# Altium schematic symbol library RESISTOR.SchLib: 36 symbols
Pins are listed as number, name and electrical type; pins without a type are passive.

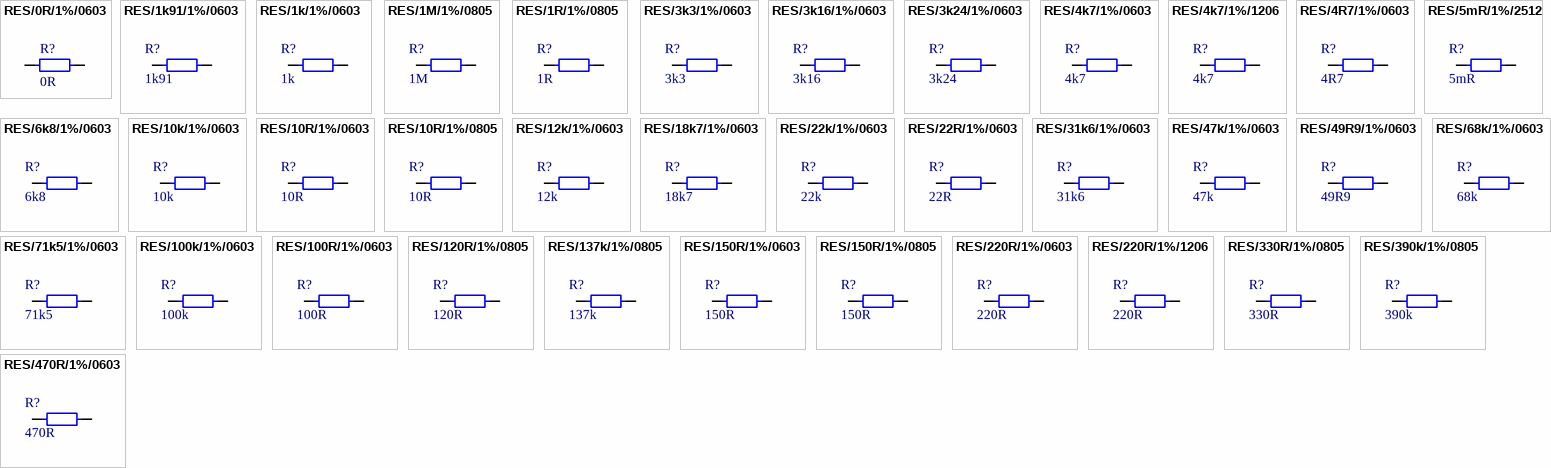
[diagram p0: symbols RES/0R/1%/0603 to RES/470R/1%/0603]

## RES/0R/1%/0603
designator R?, comment 0R
Thick Film Resistors - SMD 1/10Watt 0ohms Commercial Use; Manufacturer: Vishay Dale; Part Number: CRCW06030000Z0EAC; Distributor 1: Mouser; Distributor 1 ID: 71-CRCW06030000Z0EAC; Second Source: *; Value: 0R
footprint RES_0603N (Chip Resistor, 2-Leads, Body 1.60x0.80mm, IPC Medium Density)
pins: 1, 2

## RES/1k91/1%/0603
designator R?, comment value 1k91  (hidden comment: 1k91/0603)
Thick Film Resistors 1/10W 1.91Kohms 1% Commercial Use; Manufacturer: Vishay; Part Number: CRCW06033K16FKEAC; Distributor: Mouser; Distributor ID: 71-CRCW06033K16FKEAC
footprint RES_0603N (Chip Resistor, 2-Leads, Body 1.60x0.80mm, IPC Medium Density)
pins: 1, 2

## RES/1k/1%/0603
designator R?, comment value 1k  (hidden comment: 1k/0603)
Thick Film Resistors - SMD 1/10Watt 10Kohms 1% Commercial Use; Manufacturer: Vishay; Part Number: CRCW06031K00FKEAC; Distributor: Mouser; Distributor ID: 71-CRCW06031K00FKEAC
footprint RES_0603N (Chip Resistor, 2-Leads, Body 1.60x0.80mm, IPC Medium Density)
pins: 1, 2

## RES/1M/1%/0805
designator R?, comment value 1M  (hidden comment: 1M/0805)
Thick Film Resistors - SMD .125watt 1Mohms 1% 0805 100ppm; Manufacturer: Vishay; Part Number: CRCW080510R0FKEAC; Distributor: Mouser; Distributor ID: 71-CRCW080510R0FKEAC
footprint RES_0805N (Chip Resistor, 2-Leads, Body 2.1x1.35mm, IPC Medium Density)
pins: 1, 2

## RES/1R/1%/0805
designator R?, comment value 1R  (hidden comment: 1R/0805)
Thick Film Resistors - SMD .125watt 1ohms 1% 0805 100ppm; Manufacturer: Vishay; Part Number: CRCW080510R0FKEAC; Distributor: Mouser; Distributor ID: 71-CRCW080510R0FKEAC
footprint RES_0805N (Chip Resistor, 2-Leads, Body 2.1x1.35mm, IPC Medium Density)
pins: 1, 2

## RES/3k3/1%/0603
designator R?, comment value 3k3  (hidden comment: 3k3/0603)
Thick Film Resistors - SMD 1/10Watt 3.3Kohms 1% Commercial Use; Manufacturer: Vishay; Part Number: CRCW06033K30FKEAC; Distributor: Mouser; Distributor ID: 71-CRCW06033K30FKEAC
footprint RES_0603N (Chip Resistor, 2-Leads, Body 1.60x0.80mm, IPC Medium Density)
pins: 1, 2

## RES/3k16/1%/0603
designator R?, comment value 3k16  (hidden comment: 3k16/0603)
Thick Film Resistors 1/10W 3.16Kohms 1% Commercial Use; Manufacturer: Vishay; Part Number: CRCW06033K16FKEAC; Distributor: Mouser; Distributor ID: 71-CRCW06033K16FKEAC
footprint RES_0603N (Chip Resistor, 2-Leads, Body 1.60x0.80mm, IPC Medium Density)
pins: 1, 2

## RES/3k24/1%/0603
designator R?, comment value 3k24  (hidden comment: 3k24/0603)
Thick Film Resistors 1/10W 3.24Kohms 1% Commercial Use; Manufacturer: Vishay; Part Number: CRCW06033K16FKEAC; Distributor: Mouser; Distributor ID: 71-CRCW06033K16FKEAC
footprint RES_0603N (Chip Resistor, 2-Leads, Body 1.60x0.80mm, IPC Medium Density)
pins: 1, 2

## RES/4k7/1%/0603
designator R?, comment value 4k7  (hidden comment: 4k7/0603)
Thick Film Resistors - SMD 1/10Watt 4.7Kohms 1% Commercial Use; Manufacturer: Vishay; Part Number: CRCW06034K70FKEAC; Distributor: Mouser; Distributor ID: 71-CRCW06034K70FKEAC
footprint RES_0603N (Chip Resistor, 2-Leads, Body 1.60x0.80mm, IPC Medium Density)
pins: 1, 2

## RES/4k7/1%/1206
designator R?, comment value 4k7  (hidden comment: 4k7/1206)
Thick Film Resistors - SMD 0.5watt 4.7Kohms 1% 100ppm; Manufacturer: Vishay; Part Number: RCS12064K70FKEA; Distributor: Mouser; Distributor ID: 71-RCS12064K70FKEA
footprint RES_1206N (Chip Resistor, 2-Leads, Body 3.40x1.80mm, IPC Medium Density)
pins: 1, 2

## RES/4R7/1%/0603
designator R?, comment value 4R7  (hidden comment: 4R7/0603)
Thick Film Resistors - SMD 1/10Watt 4.7ohms 1% Commercial Use; Manufacturer: Vishay; Part Number: CRCW06034K70FKEAC; Distributor: Mouser; Distributor ID: 71-CRCW06034K70FKEAC
footprint RES_0603N (Chip Resistor, 2-Leads, Body 1.60x0.80mm, IPC Medium Density)
pins: 1, 2

## RES/5mR/1%/2512
designator R?, comment value 5mR  (hidden comment: 5mR/2512)
Current Sense Resistors - SMD 0.005ohms 1% 75PPM; Manufacturer: Vishay; Part Number: CRCW0402100RFKEDC; Distributor: Mouser; Distributor ID: 71-CRCW0402100RFKEDC
footprint RESC6432X08N (Chip Resistor, 2-Leads, Body 6.40x3.20mm, IPC Medium Density)
pins: 1, 2

## RES/6k8/1%/0603
designator R?, comment value 6k8  (hidden comment: 6k8/0603)
Thick Film Resistors - SMD 1/10Watt 6.8Kohms 1% Commercial Use; Manufacturer: Vishay; Part Number: CRCW06034K70FKEAC; Distributor: Mouser; Distributor ID: 71-CRCW06034K70FKEAC
footprint RES_0603N (Chip Resistor, 2-Leads, Body 1.60x0.80mm, IPC Medium Density)
pins: 1, 2

## RES/10k/1%/0603
designator R?, comment value 10k  (hidden comment: 10k/0603)
Thick Film Resistors - SMD 1/10Watt 10Kohms 1% Commercial Use; Manufacturer: Vishay; Part Number: CRCW060310K0FKEAC; Distributor: Mouser; Distributor ID: 71-CRCW060310K0FKEAC
footprint RES_0603N (Chip Resistor, 2-Leads, Body 1.60x0.80mm, IPC Medium Density)
pins: 1, 2

## RES/10R/1%/0603
designator R?, comment value 10R  (hidden comment: 10R/0603)
Thick Film Resistors - SMD 1/10Watt 10ohms 1% Commercial Use; Manufacturer: Vishay; Part Number: CRCW060310R0FKEAC; Distributor: Mouser; Distributor ID: 71-CRCW060310R0FKEAC
footprint RES_0603N (Chip Resistor, 2-Leads, Body 1.60x0.80mm, IPC Medium Density)
pins: 1, 2

## RES/10R/1%/0805
designator R?, comment value 10R  (hidden comment: 10R/0805)
Thick Film Resistors - SMD 1/8Watt 10ohms 1% Commercial Use; Manufacturer: Vishay; Part Number: CRCW080510R0FKEAC; Distributor: Mouser; Distributor ID: 71-CRCW080510R0FKEAC
footprint RES_0805N (Chip Resistor, 2-Leads, Body 2.1x1.35mm, IPC Medium Density)
pins: 1, 2

## RES/12k/1%/0603
designator R?, comment value 12k  (hidden comment: 12k/0603)
Thick Film Resistors - SMD 1/10Watt 12Kohms 1% Commercial Use; Manufacturer: Vishay; Part Number: CRCW060310K0FKEAC; Distributor: Mouser; Distributor ID: 71-CRCW060310K0FKEAC
footprint RES_0603N (Chip Resistor, 2-Leads, Body 1.60x0.80mm, IPC Medium Density)
pins: 1, 2

## RES/18k7/1%/0603
designator R?, comment value 18k7  (hidden comment: 18k7/0603)
Thick Film Resistors - SMD 1/10W 18.7Kohms 1% Commercial Use; Manufacturer: Vishay; Part Number: CRCW060331K6FKEAC; Distributor: Mouser; Distributor ID: 71-CRCW060331K6FKEAC
footprint RES_0603N (Chip Resistor, 2-Leads, Body 1.60x0.80mm, IPC Medium Density)
pins: 1, 2

## RES/22k/1%/0603
designator R?, comment value 22k  (hidden comment: 22k/0603)
Thick Film Resistors - SMD 1/10Watt 22Kohms 1% Commercial Use; Manufacturer: Vishay; Part Number: CRCW060310K0FKEAC; Distributor: Mouser; Distributor ID: 71-CRCW060310K0FKEAC
footprint RES_0603N (Chip Resistor, 2-Leads, Body 1.60x0.80mm, IPC Medium Density)
pins: 1, 2

## RES/22R/1%/0603
designator R?, comment value 22R  (hidden comment: 22R/0603)
Thick Film Resistors - SMD 1/10Watt 22ohms 1% Commercial Use; Manufacturer: Vishay; Part Number: CRCW060322R0FKEAC; Distributor: Mouser; Distributor ID: 71-CRCW060322R0FKEAC
footprint RES_0603N (Chip Resistor, 2-Leads, Body 1.60x0.80mm, IPC Medium Density)
pins: 1, 2

## RES/31k6/1%/0603
designator R?, comment value 31k6  (hidden comment: 31k6/0603)
Thick Film Resistors - SMD 1/10W 31.6Kohms 1% Commercial Use; Manufacturer: Vishay; Part Number: CRCW060331K6FKEAC; Distributor: Mouser; Distributor ID: 71-CRCW060331K6FKEAC
footprint RES_0603N (Chip Resistor, 2-Leads, Body 1.60x0.80mm, IPC Medium Density)
pins: 1, 2

## RES/47k/1%/0603
designator R?, comment value 47k  (hidden comment: 47k/0603)
Thick Film Resistors - SMD 1/10Watt 47Kohms 1% Commercial Use; Manufacturer: Vishay; Part Number: CRCW060310K0FKEAC; Distributor: Mouser; Distributor ID: 71-CRCW060310K0FKEAC
footprint RES_0603N (Chip Resistor, 2-Leads, Body 1.60x0.80mm, IPC Medium Density)
pins: 1, 2

## RES/49R9/1%/0603
designator R?, comment value 49R9  (hidden comment: 49R9/0603)
Thick Film Resistors 1/10W 49.9ohms 1% Commercial Use; Manufacturer: Vishay; Part Number: CRCW06033K16FKEAC; Distributor: Mouser; Distributor ID: 71-CRCW06033K16FKEAC
footprint RES_0603N (Chip Resistor, 2-Leads, Body 1.60x0.80mm, IPC Medium Density)
pins: 1, 2

## RES/68k/1%/0603
designator R?, comment value 68k  (hidden comment: 68k/0603)
Thick Film Resistors - SMD 1/10Watt 68Kohms 1% Commercial Use; Manufacturer: Vishay; Part Number: CRCW060310K0FKEAC; Distributor: Mouser; Distributor ID: 71-CRCW060310K0FKEAC
footprint RES_0603N (Chip Resistor, 2-Leads, Body 1.60x0.80mm, IPC Medium Density)
pins: 1, 2

## RES/71k5/1%/0603
designator R?, comment value 71k5  (hidden comment: 71k5/0603)
Thick Film Resistors - SMD 1/10W 71.5Kohms 1% Commercial Use; Manufacturer: Vishay; Part Number: CRCW060331K6FKEAC; Distributor: Mouser; Distributor ID: 71-CRCW060331K6FKEAC
footprint RES_0603N (Chip Resistor, 2-Leads, Body 1.60x0.80mm, IPC Medium Density)
pins: 1, 2

## RES/100k/1%/0603
designator R?, comment value 100k  (hidden comment: 100k/0603)
Thick Film Resistors - SMD 1/10Watt 100Kohms 1% Commercial Use; Manufacturer: Vishay; Part Number: CRCW0603100KFKEAC; Distributor: Mouser; Distributor ID: 71-CRCW0603100KFKEAC
footprint RES_0603N (Chip Resistor, 2-Leads, Body 1.60x0.80mm, IPC Medium Density)
pins: 1, 2

## RES/100R/1%/0603
designator R?, comment value 100R  (hidden comment: 100R/0603)
Thick Film Resistors - SMD 1/16watt 100ohms 1% Commercial Use; Manufacturer: Vishay; Part Number: CRCW0402100RFKEDC; Distributor: Mouser; Distributor ID: 71-CRCW0402100RFKEDC
footprint RES_0603N (Chip Resistor, 2-Leads, Body 1.60x0.80mm, IPC Medium Density)
pins: 1, 2

## RES/120R/1%/0805
designator R?, comment value 120R  (hidden comment: 120R/0805)
Thick Film Resistors - SMD 1/8Watt 120ohms 1% Commercial Use; Manufacturer: Vishay; Part Number: CRCW080510R0FKEAC; Distributor: Mouser; Distributor ID: 71-CRCW080510R0FKEAC
footprint RES_0805N (Chip Resistor, 2-Leads, Body 2.1x1.35mm, IPC Medium Density)
pins: 1, 2

## RES/137k/1%/0805
designator R?, comment value 137k  (hidden comment: 137k/0805)
Thick Film Resistors - SMD 1/8Watt 137kohms 1% Commercial Use; Manufacturer: Vishay; Part Number: CRCW080510R0FKEAC; Distributor: Mouser; Distributor ID: 71-CRCW080510R0FKEAC
footprint RES_0805N (Chip Resistor, 2-Leads, Body 2.1x1.35mm, IPC Medium Density)
pins: 1, 2

## RES/150R/1%/0603
designator R?, comment value 150R  (hidden comment: 150R/0603)
Thick Film Resistors - SMD 1/16watt 100ohms 1% Commercial Use; Manufacturer: Vishay; Part Number: CRCW0402100RFKEDC; Distributor: Mouser; Distributor ID: 71-CRCW0402100RFKEDC
footprint RES_0603N (Chip Resistor, 2-Leads, Body 1.60x0.80mm, IPC Medium Density)
pins: 1, 2

## RES/150R/1%/0805
designator R?, comment value 150R  (hidden comment: 150R/0805)
Thick Film Resistors - SMD 1/8Watt 10ohms 1% Commercial Use; Manufacturer: Vishay; Part Number: CRCW080510R0FKEAC; Distributor: Mouser; Distributor ID: 71-CRCW080510R0FKEAC
footprint RES_0805N (Chip Resistor, 2-Leads, Body 2.1x1.35mm, IPC Medium Density)
pins: 1, 2

## RES/220R/1%/0603
designator R?, comment value 220R  (hidden comment: 220R/0603)
Thick Film Resistors - SMD 1/16watt 100ohms 1% Commercial Use; Manufacturer: Vishay; Part Number: CRCW0402100RFKEDC; Distributor: Mouser; Distributor ID: 71-CRCW0402100RFKEDC
footprint RES_0603N (Chip Resistor, 2-Leads, Body 1.60x0.80mm, IPC Medium Density)
pins: 1, 2

## RES/220R/1%/1206
designator R?, comment value 220R  (hidden comment: 220R/1206)
Thick Film Resistors - SMD 1/4Watt 220ohms 1% Commercial Use; Manufacturer: Vishay; Part Number: CRCW1206220RFKEAC; Distributor: Mouser; Distributor ID: 71-CRCW1206220RFKEAC
footprint RES_1206N (Chip Resistor, 2-Leads, Body 3.40x1.80mm, IPC Medium Density)
pins: 1, 2

## RES/330R/1%/0805
designator R?, comment value 330R  (hidden comment: 330R/0805)
Thick Film Resistors - SMD 1/8Watt 330ohms 1% Commercial Use; Manufacturer: Vishay; Part Number: CRCW0805330RFKEAC; Distributor: Mouser; Distributor ID: 71-CRCW0805330RFKEAC
footprint RES_0805N (Chip Resistor, 2-Leads, Body 2.1x1.35mm, IPC Medium Density)
pins: 1, 2

## RES/390k/1%/0805
designator R?, comment value 390k  (hidden comment: 390k/0805)
Thick Film Resistors - SMD 1/8Watt 390Kohms 1% Commercial Use; Manufacturer: Vishay; Part Number: CRCW080510R0FKEAC; Distributor: Mouser; Distributor ID: 71-CRCW080510R0FKEAC
footprint RES_0805N (Chip Resistor, 2-Leads, Body 2.1x1.35mm, IPC Medium Density)
pins: 1, 2

## RES/470R/1%/0603
designator R?, comment value 470R  (hidden comment: 470R/0603)
Thick Film Resistors 1/10Watt 470ohms 1% Commercial Use; Manufacturer: Vishay; Part Number: CRCW0402100RFKEDC; Distributor: Mouser; Distributor ID: 71-CRCW0402100RFKEDC
footprint RES_0603N (Chip Resistor, 2-Leads, Body 1.60x0.80mm, IPC Medium Density)
pins: 1, 2